# Altium schematic symbol library [MCU] STM32F0xx.SchLib: 1 symbol
Pins are listed as number, name and electrical type; pins without a type are passive.

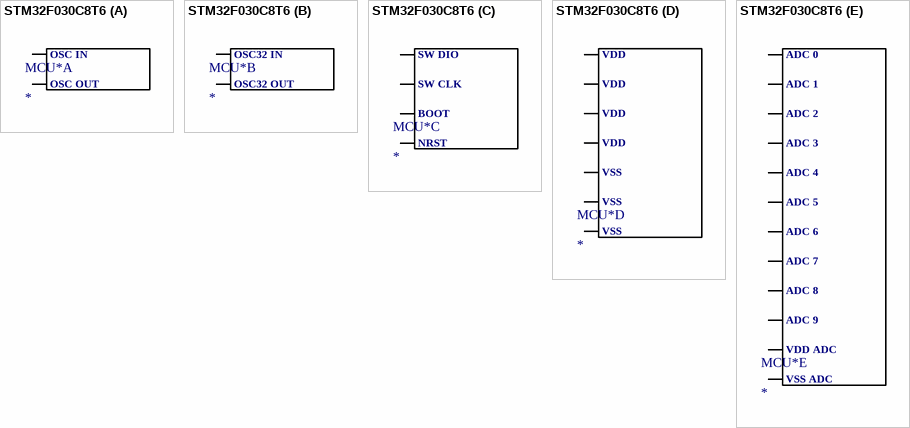
[diagram p0: symbol STM32F030C8T6]

## STM32F030C8T6
designator MCU*
footprint LQFP-48
part A pins: 5, 6
part B pins: 3, 4
part C pins: 7, 34, 37, 44
part D pins: 1, 23, 24, 35, 36, 47, 48
part E pins: 10, 11, 12, 13, 14, 15, 16, 17, 18, 19, 35, 47
part A text: OSC IN; OSC OUT
part B text: OSC32 IN; OSC32 OUT
part C text: SW DIO; SW CLK; BOOT; NRST
part D text: VDD; VSS
part E text: ADC 0; ADC 1; ADC 2; ADC 3; ADC 4; ADC 5; ADC 6; ADC 7; ADC 8; ADC 9; VDD ADC; VSS ADC